# EAGLE library part ADMP621ACEZ-RL7-RECT (library InvenSense-INMP621ACEZ-R7-rect)
IC, MICROPHONE, 2 CH , LGA_CAV-5
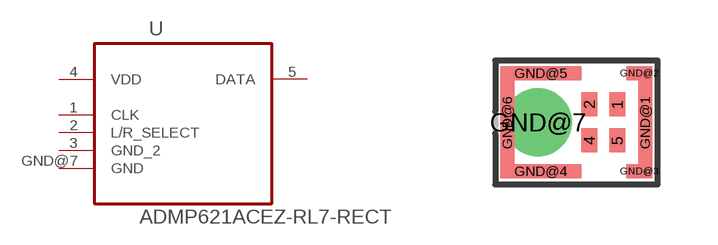
[diagram p0: symbol with the pads of ADMP621ACEZ-RL7-RECT; footprint ADMP621ACEZ-RL7-RECT]

Designator prefix U

## ADMP621ACEZ-RL7-RECT (MPN: ADMP621ACEZ-RL7; OC_FARNELL: 2361525; OC_NEWARK: 08X1061; PACKAGE: 5LGA; SUPPLIER: ANALOG DEVICES)  [ADMP621ACEZ-RL7-RECT]
1  CLK  in
2  L/R_SELECT  pas
3  GND_2  pas
4  VDD  pwr
5  DATA  out
GND@7  GND  pas

## Footprint ADMP621ACEZ-RL7-RECT (pad centres in mm)
smd 0.4 x 0.6: 1 1.025,0.45; 2 0.325,0.45; 4 0.325,-0.45; 5 1.025,-0.45
smd 0.051 x 0.051: 3 -1.727,0
smd 0.35 x 2.1: GND@1 1.725,0; GND@6 -1.725,0
smd 0.65 x 0.35: GND@2 1.575,1.225; GND@3 1.575,-1.225
smd 2.025 x 0.35: GND@4 -0.887,-1.225; GND@5 -0.887,1.225
drill 0.7 pad 1.7: GND@7 -0.965,0